# Altium footprint library SO-8_7.5mm.PcbLib: 1 footprints
Each footprint in its own frame and in the unit in brackets; x right, y up, seen from the top. Pads: shape width x height; smd on the part's side, far side on the other; paste and mask are expansions set on the pad; w line width, h text height; cw(c..) or ccw(c..) is an arc to the next point about the centre after c.
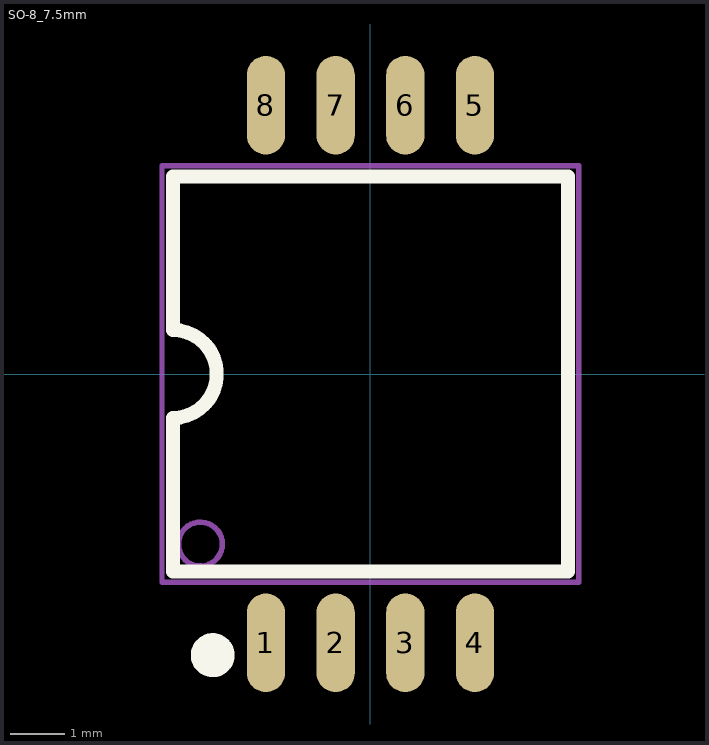
[diagram p0: the footprint, top view; thin cyan lines are the x and y axes]

## SO-8_7.5mm [mm]
pads (8):
  oval 0.7x1.8 smd: 1(-1.905,-4.9) 2(-0.635,-4.9) 3(0.635,-4.9) 4(1.905,-4.9) 5(1.905,4.9) 6(0.635,4.9) 7(-0.635,4.9) 8(-1.905,4.9)
Top Overlay:
  circle w0.4: c-2.875,-5.125 r0.2
  lines w0.254: -3.6,-3.6 3.6,-3.6 3.6,3.6 -3.6,3.6 -3.6,0.8 cw(c-3.6,0) -3.6,-0.8 -3.6,-3.6
Mechanical 13:
  circle w0.1: c-3.1,-3.1 r0.4
  lines w0.1: -3.8,-3.8 3.8,-3.8 3.8,3.8 -3.8,3.8 -3.8,-3.8